# Altium footprint library ARDevelopmentPlat.PcbLib: 24 footprints (part 2 of 2)
Each footprint in its own frame and in the unit in brackets; x right, y up, seen from the top. Pads: shape width x height; smd on the part's side, far side on the other; paste and mask are expansions set on the pad; w line width, h text height; cw(c..) or ccw(c..) is an arc to the next point about the centre after c.
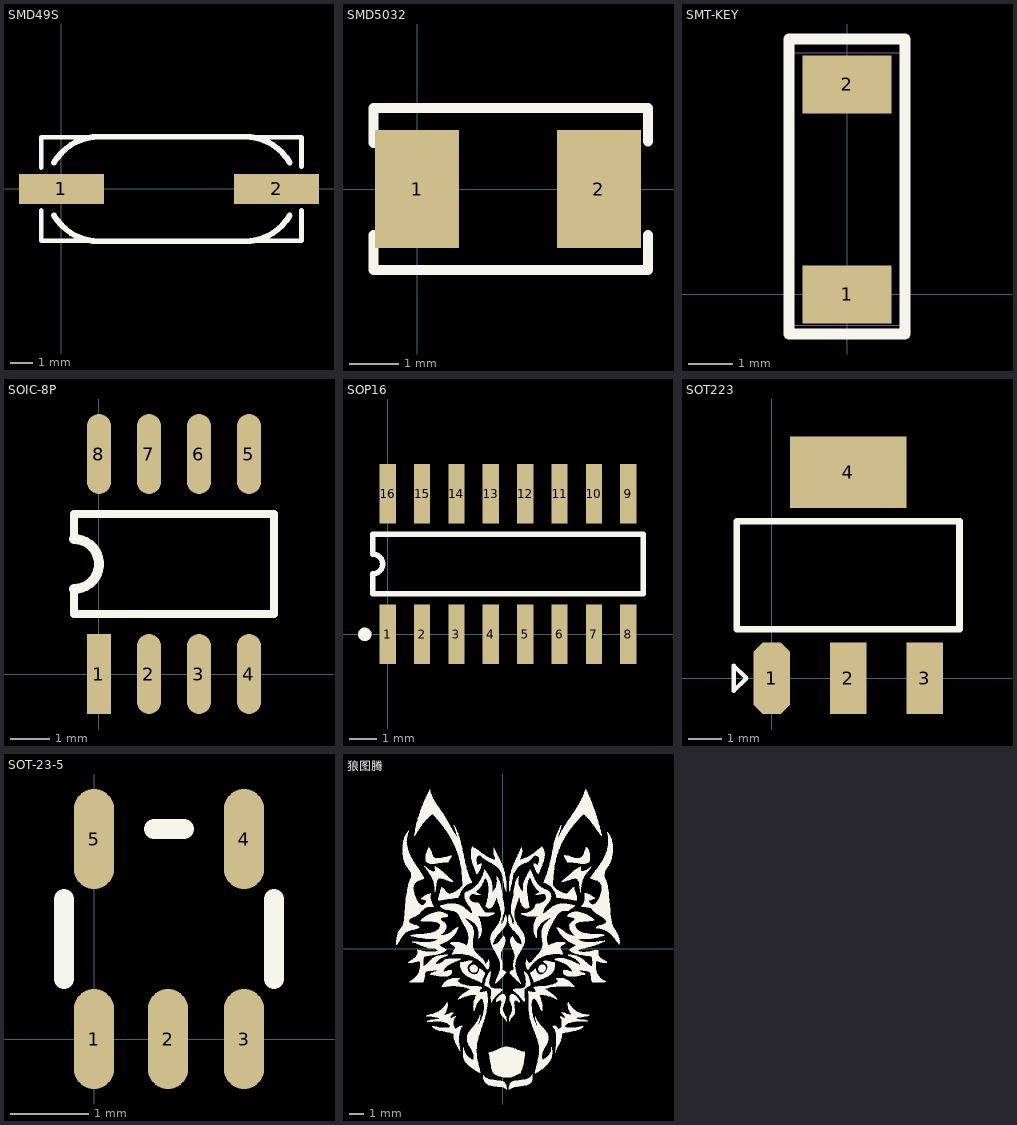
[diagram p1: the footprints below, top view; thin cyan lines are the x and y axes]

## SMD49S [mil]
pads (2):
  rect 146x51 smd: 1(0,0) 2(370,0)
Top Overlay:
  lines w8: -35,-37 -35,-89 413,-89 413,-37 ; -35,37 -35,89 413,89 413,38
  lines w10: -12.57,-45.63 ccw(c65,0) 65,-90 315,-90 ccw(c315,0) 392.57,-45.63 ; -12.57,45.63 cw(c65,0) 65,90 ; 55,90 315,90 cw(c315,0) 392.57,45.63

## SMD5032 [mm]
pads (2):
  rect 1.7x2.4 smd: 1(0,0) 2(3.7,0)
Top Overlay:
  lines w0.203: -0.889,-1.651 -0.889,-0.94 ; -0.889,-1.65 4.699,-1.65 4.699,-0.94 ; -0.889,0.94 -0.889,1.651 ; -0.889,1.65 4.699,1.65 4.699,0.965

## SMT-KEY [mm]
pads (2):
  rect 2x1.3 smd paste+0 mask+0.2: 1(0,0) 2(0,4.7)
Top Overlay:
  lines w0.254: -1.3,-0.888 -1.3,5.716 1.3,5.716 1.3,-0.888 -1.3,-0.888
Mechanical 1:
  lines w0.025: -1.3,-0.695 -1.3,5.405 1.3,5.405 1.3,-0.695 -1.3,-0.695
Mechanical 2:
  lines w0.003: -1.3,-0.695 -1.3,5.405 1.3,5.405 1.3,-0.695 -1.3,-0.695

## SOIC-8P [mil]
pads (8):
  rect 24x80 smd mask+3: 1(0,0)
  oval 24x80 smd mask+3: 2(50,0) 3(100,0) 4(150,0) 5(150,220) 6(100,220) 7(50,220) 8(0,220)
Top Overlay:
  lines w8: -25,85 -25,60 175,60 175,160 -25,160 -25,135
  lines w10: -25,85 ccw(c-25,110) -25,135

## SOP16 [mm]
pads (16):
  rect 0.6x2.2 smd: 1(0,0) 2(1.27,0) 3(2.54,0) 4(3.81,0) 5(5.08,0) 6(6.35,0) 7(7.62,0) 8(8.89,0) 9(8.89,5.2) 10(7.62,5.2) 11(6.35,5.2) 12(5.08,5.2) 13(3.81,5.2) 14(2.54,5.2) 15(1.27,5.2) 16(0,5.2)
Top Overlay:
  circle w0.25: c-0.85,0 r0.125
  lines w0.2: -0.555,1.5 -0.555,2.233 ccw(c-0.555,2.6) -0.555,2.967 -0.555,3.7 9.445,3.7 9.445,1.5 -0.555,1.5

## SOT223 [mm]
pads (4):
  oct 1.1x2.15 smd: 1(0,0)
  rect 1.1x2.15 smd: 2(2.3,0) 3(4.6,0)
  rect 3.5x2.15 smd: 4(2.3,6.2)
Top Overlay:
  lines w0.127: -1.143,-0.381 -0.762,0 -1.143,0.381 -1.143,-0.381
  lines w0.2: -1.05,1.475 -1.05,4.725 5.65,4.725 5.65,1.475 -1.05,1.475

## SOT-23-5 [mil]
pads (5):
  oval 20x50 smd: 1(0,0) 2(37,0) 3(75,0) 4(75,100) 5(0,100)
Top Overlay:
  lines w10: -15,30 -15,70 ; 30,105 45,105 ; 90,30 90,70

## 狼图腾 [mm]
Top Overlay:
  drawing of 6203 lines, arcs and shapes, not listed